# Altium footprint library SamacSys.PcbLib: 47 footprints (part 2 of 3)
Each footprint in its own frame and in the unit in brackets; x right, y up, seen from the top. Pads: shape width x height; smd on the part's side, far side on the other; paste and mask are expansions set on the pad; w line width, h text height; cw(c..) or ccw(c..) is an arc to the next point about the centre after c.
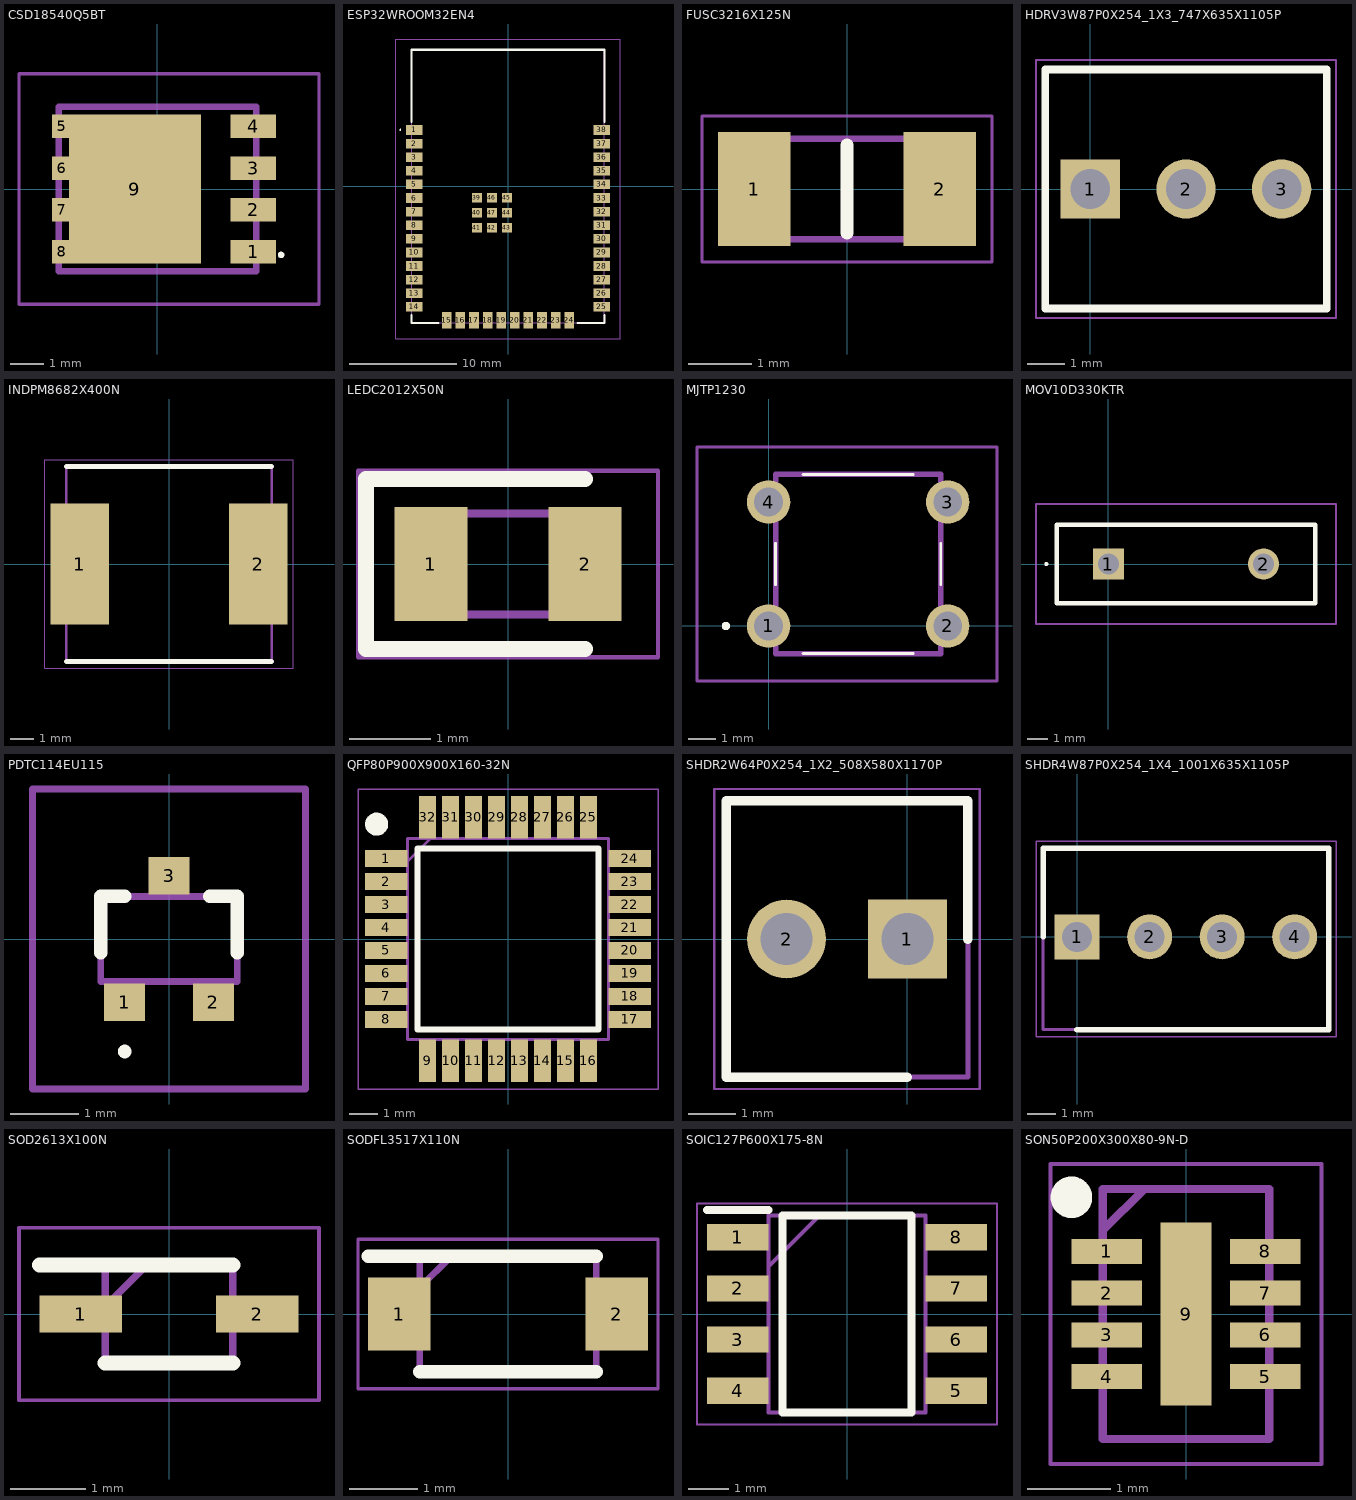
[diagram p1: the footprints below, top view; thin cyan lines are the x and y axes]

## CSD18540Q5BT [mm]
pads (9):
  rect 1.372x0.71 smd: 1(2.907,-1.905) 2(2.907,-0.635) 3(2.907,0.635) 4(2.907,1.905)
  rect 0.59x0.71 smd: 5(-2.907,1.905) 6(-2.907,0.635) 7(-2.907,-0.635) 8(-2.907,-1.905)
  rect 4x4.52 smd: 9(-0.687,0)
Top Overlay:
  lines w0.1: 3.7,-2 cw(c3.75,-2) 3.8,-2 cw(c3.75,-2) 3.7,-2
Mechanical 13:
  lines w0.2: -3,-2.5 3,-2.5 3,2.5 -3,2.5 -3,-2.5
Mechanical 15:
  lines w0.1: -4.202,-3.5 4.9,-3.5 4.9,3.5 -4.202,3.5 -4.202,-3.5
3D body "CSD18510Q5B.stp": height 1, standoff 0, extent -2.86,-2.5 3.14,2.5

## ESP32WROOM32EN4 [mm]
pads (47):
  rect 1.5x0.9 smd: 1(-8.75,5.26) 2(-8.75,3.99) 3(-8.75,2.72) 4(-8.75,1.45) 5(-8.75,0.18) 6(-8.75,-1.09) 7(-8.75,-2.36) 8(-8.75,-3.63) 9(-8.75,-4.9) 10(-8.75,-6.17) 11(-8.75,-7.44) 12(-8.75,-8.71) 13(-8.75,-9.98) 14(-8.75,-11.25) 25(8.75,-11.25) 26(8.75,-9.98) 27(8.75,-8.71) 28(8.75,-7.44) 29(8.75,-6.17) 30(8.75,-4.9) 31(8.75,-3.63) 32(8.75,-2.36) 33(8.75,-1.09) 34(8.75,0.18) 35(8.75,1.45) 36(8.75,2.72) 37(8.75,3.99) 38(8.75,5.26)
  rect 0.9x1.5 smd: 15(-5.715,-12.5) 16(-4.445,-12.5) 17(-3.175,-12.5) 18(-1.905,-12.5) 19(-0.635,-12.5) 20(0.635,-12.5) 21(1.905,-12.5) 22(3.175,-12.5) 23(4.445,-12.5) 24(5.715,-12.5)
  rect 0.9x0.9 smd: 39(-2.9,-1.06) 40(-2.9,-2.46) 41(-2.9,-3.86) 42(-1.5,-3.86) 43(-0.1,-3.86) 44(-0.1,-2.46) 45(-0.1,-1.06) 46(-1.5,-1.06) 47(-1.5,-2.46)
Top Overlay:
  lines w0.1: -10.1,5.26 cw(c-10.05,5.26) -10,5.26 cw(c-10.05,5.26) -10.1,5.26
  lines w0.2: -9,-12 -9,-12.75 -6.5,-12.75 ; -9,6 -9,12.75 9,12.75 9,6 ; 6.5,-12.75 9,-12.75 9,-12
Mechanical 13:
  lines w0.1: -9,-12.75 -9,12.75 9,12.75 9,-12.75 -9,-12.75
Mechanical 15:
  lines w0.1: -10.5,-14.25 -10.5,13.75 10.5,13.75 10.5,-14.25 -10.5,-14.25
3D body "ESP32-WROOM-32E-N4.stp": height 3.2, standoff 0, extent -9.21,-12.84 8.978,12.75

## FUSC3216X125N [mm]
pads (2):
  rect 1.16x1.82 smd: 1(-1.475,0) 2(1.475,0)
Top Overlay:
  lines w0.2: 0,-0.7 0,0.7
Mechanical 13:
  lines w0.1: -1.6,-0.8 1.6,-0.8 1.6,0.8 -1.6,0.8 -1.6,-0.8
Mechanical 15:
  lines w0.05: -2.305,-1.16 2.305,-1.16 2.305,1.16 -2.305,1.16 -2.305,-1.16
3D body "NANOSMDCH030F_24-02.stp": height 1.25, standoff 0, extent -1.6,-0.8 1.6,0.8

## HDRV3W87P0X254_1X3_747X635X1105P [mm]
pads (3):
  rect 1.575x1.575 hole 1.05: 1(0,0)
  round 1.575 hole 1.05: 2(2.54,0) 3(5.08,0)
Top Overlay:
  lines w0.2: -1.195,-3.175 6.275,-3.175 6.275,3.175 -1.195,3.175 -1.195,-3.175
Mechanical 13:
  lines w0.1: -1.195,-3.175 6.275,-3.175 6.275,3.175 -1.195,3.175 -1.195,-3.175
Mechanical 15:
  lines w0.05: -1.445,-3.425 6.525,-3.425 6.525,3.425 -1.445,3.425 -1.445,-3.425
3D body "0022232031.stp": height 10.73, standoff -3.49, extent -1.194,-3.099 6.274,3.251

## INDPM8682X400N [mm]
pads (2):
  rect 2.45x5.1 smd: 1(-3.75,0) 2(3.75,0)
Top Overlay:
  lines w0.2: -4.32,-4.09 4.32,-4.09 ; -4.32,4.09 4.32,4.09
Mechanical 13:
  lines w0.1: -4.32,-4.09 4.32,-4.09 4.32,4.09 -4.32,4.09 -4.32,-4.09
Mechanical 15:
  lines w0.05: -5.225,-4.378 5.225,-4.378 5.225,4.378 -5.225,4.378 -5.225,-4.378
3D body "IHLP3232DZER4R7M11.stp": height 3.9, standoff 0, extent -4.3,-4.097 4.3,4.097

## LEDC2012X50N [mm]
pads (2):
  rect 0.9x1.4 smd: 1(-0.95,0) 2(0.95,0)
Top Overlay:
  lines w0.2: 0.95,-1.05 -1.75,-1.05 -1.75,1.05 0.95,1.05
Mechanical 13:
  lines w0.1: -1,0.208 -0.583,0.625 ; -1,-0.625 -1,0.625 1,0.625 1,-0.625 -1,-0.625
Mechanical 15:
  lines w0.05: -1.85,-1.15 -1.85,1.15 1.85,1.15 1.85,-1.15 -1.85,-1.15
3D body "APHCM2012SYCK-F01.stp": height 0.4, standoff 0, extent -1,-0.625 1,0.625

## MJTP1230 [mm]
pads (4):
  round 1.575 hole 1.05: 1(0,0) 2(6.5,0) 3(6.5,4.5) 4(0,4.5)
Top Overlay:
  lines w0.1: 0.25,1.5 0.25,3 0.25,1.5 ; 1.25,-1 5.25,-1 1.25,-1 ; 1.25,5.5 5.25,5.5 1.25,5.5 ; 6.25,1.5 6.25,3 6.25,1.5
  lines w0.2: -1.6,0 ccw(c-1.55,0) -1.5,0 ; -1.6,0 cw(c-1.55,0) -1.5,0 ; -1.6,0 ccw(c-1.55,0) -1.5,0
Mechanical 13:
  lines w0.2: 0.25,-1 6.25,-1 6.25,5.5 0.25,5.5 0.25,-1
Mechanical 15:
  lines w0.1: -2.6,-2 8.288,-2 8.288,6.5 -2.6,6.5 -2.6,-2
3D body "MJTP1230.stp": height 5.1, standoff -5, extent -0.422,-1 6.925,5.5

## MOV10D330KTR [mm]
pads (2):
  rect 1.5x1.5 hole 1: 1(0,0)
  round 1.5 hole 1: 2(7.5,0)
Top Overlay:
  lines w0.1: -3.05,0 cw(c-3,0) -2.95,0 cw(c-3,0) -3.05,0
  lines w0.2: -2.5,-1.9 -2.5,1.9 10,1.9 10,-1.9 -2.5,-1.9
Mechanical 13:
  lines w0.1: -2.5,-1.9 -2.5,1.9 10,1.9 10,-1.9 -2.5,-1.9
Mechanical 15:
  lines w0.1: -3.5,-2.9 -3.5,2.9 11,2.9 11,-2.9 -3.5,-2.9
3D body "MOV-10D330KTR.STEP": height 18.5, standoff -14, extent -3.011,-3.359 10.085,3.546

## PDTC114EU115 [mm]
pads (3):
  rect 0.6x0.55 smd: 1(-0.65,-0.925) 2(0.65,-0.925) 3(0,0.925)
Top Overlay:
  lines w0.1: -0.65,-1.7 cw(c-0.65,-1.65) -0.65,-1.6 cw(c-0.65,-1.65) -0.65,-1.7
  lines w0.2: -1,-0.2 -1,0.625 -0.65,0.625 ; 0.6,0.625 1,0.625 1,-0.2
Mechanical 13:
  lines w0.1: -1,-0.625 1,-0.625 1,0.625 -1,0.625 -1,-0.625
Mechanical 15:
  lines w0.1: -2,-2.2 2,-2.2 2,2.2 -2,2.2 -2,-2.2
3D body "PDTC114EU,115.stp": height 0.95, standoff 0, extent -1.051,-1.052 1.049,1.048

## QFP80P900X900X160-32N [mm]
pads (32):
  rect 1.475x0.6 smd: 1(-4.238,2.8) 2(-4.238,2) 3(-4.238,1.2) 4(-4.238,0.4) 5(-4.238,-0.4) 6(-4.238,-1.2) 7(-4.238,-2) 8(-4.238,-2.8) 17(4.238,-2.8) 18(4.238,-2) 19(4.238,-1.2) 20(4.238,-0.4) 21(4.238,0.4) 22(4.238,1.2) 23(4.238,2) 24(4.238,2.8)
  rect 0.6x1.475 smd: 9(-2.8,-4.238) 10(-2,-4.238) 11(-1.2,-4.238) 12(-0.4,-4.238) 13(0.4,-4.238) 14(1.2,-4.238) 15(2,-4.238) 16(2.8,-4.238) 25(2.8,4.238) 26(2,4.238) 27(1.2,4.238) 28(0.4,4.238) 29(-0.4,4.238) 30(-1.2,4.238) 31(-2,4.238) 32(-2.8,4.238)
Top Overlay:
  circle w0.4: c-4.575,4 r0.2
  lines w0.2: -3.15,-3.15 -3.15,3.15 3.15,3.15 3.15,-3.15 -3.15,-3.15
Mechanical 13:
  lines w0.1: -3.5,2.7 -2.7,3.5 ; -3.5,-3.5 -3.5,3.5 3.5,3.5 3.5,-3.5 -3.5,-3.5
Mechanical 15:
  lines w0.05: -5.225,-5.225 -5.225,5.225 5.225,5.225 5.225,-5.225 -5.225,-5.225
3D body "STM32L031K6T6.stp": height 1.6, standoff 0, extent -4.5,-4.5 4.5,4.5

## SHDR2W64P0X254_1X2_508X580X1170P [mm]
pads (2):
  rect 1.65x1.65 hole 1.1: 1(0,0)
  round 1.65 hole 1.1: 2(-2.54,0)
Top Overlay:
  lines w0.2: 0,-2.9 -3.81,-2.9 -3.81,2.9 1.27,2.9 1.27,0
Mechanical 13:
  lines w0.1: -3.81,-2.9 -3.81,2.9 1.27,2.9 1.27,-2.9 -3.81,-2.9
Mechanical 15:
  lines w0.05: -4.06,-3.15 -4.06,3.15 1.52,3.15 1.52,-3.15 -4.06,-3.15
3D body "0022272021.stp": height 11.77, standoff -3.49, extent -3.82,-2.9 1.26,2.9

## SHDR4W87P0X254_1X4_1001X635X1105P [mm]
pads (4):
  rect 1.575x1.575 hole 1.05: 1(0,0)
  round 1.575 hole 1.05: 2(2.54,0) 3(5.08,0) 4(7.62,0)
Top Overlay:
  lines w0.2: -1.19,0 -1.19,3.1 8.82,3.1 8.82,-3.25 0,-3.25
Mechanical 13:
  lines w0.1: -1.19,-3.25 8.82,-3.25 8.82,3.1 -1.19,3.1 -1.19,-3.25
Mechanical 15:
  lines w0.05: -1.44,-3.5 9.07,-3.5 9.07,3.35 -1.44,3.35 -1.44,-3.5
3D body "0022232041.stp": height 10.73, standoff -3.49, extent -1.189,-3.25 8.819,3.1

## SOD2613X100N [mm]
pads (2):
  rect 1.1x0.5 smd: 1(-1.175,0) 2(1.175,0)
Top Overlay:
  lines w0.2: -1.725,0.65 0.85,0.65 ; -0.85,-0.65 0.85,-0.65
Mechanical 13:
  lines w0.1: -0.85,0.1 -0.3,0.65 ; -0.85,-0.65 0.85,-0.65 0.85,0.65 -0.85,0.65 -0.85,-0.65
Mechanical 15:
  lines w0.05: -2,-1.15 2,-1.15 2,1.15 -2,1.15 -2,-1.15
3D body "B5819WS.stp": height 1, standoff 0, extent -1.3,-0.65 1.3,0.65

## SODFL3517X110N [mm]
pads (2):
  rect 0.92x1.08 smd: 1(-1.6,0) 2(1.6,0)
Top Overlay:
  lines w0.2: -2.06,0.85 1.3,0.85 ; -1.3,-0.85 1.3,-0.85
Mechanical 13:
  lines w0.1: -1.3,0.39 -0.84,0.85 ; -1.3,-0.85 1.3,-0.85 1.3,0.85 -1.3,0.85 -1.3,-0.85
Mechanical 15:
  lines w0.05: -2.21,-1.1 2.21,-1.1 2.21,1.1 -2.21,1.1 -2.21,-1.1
3D body "PMEG6010ER,115.stp": height 1.07, standoff 0, extent -1.748,-1.069 1.752,0.931

## SOIC127P600X175-8N [mm]
pads (8):
  rect 1.525x0.65 smd: 1(-2.712,1.905) 2(-2.712,0.635) 3(-2.712,-0.635) 4(-2.712,-1.905) 5(2.712,-1.905) 6(2.712,-0.635) 7(2.712,0.635) 8(2.712,1.905)
Top Overlay:
  lines w0.2: -3.475,2.58 -1.95,2.58 ; -1.6,-2.45 -1.6,2.45 1.6,2.45 1.6,-2.45 -1.6,-2.45
Mechanical 13:
  lines w0.1: -1.95,1.18 -0.68,2.45 ; -1.95,-2.45 -1.95,2.45 1.95,2.45 1.95,-2.45 -1.95,-2.45
Mechanical 15:
  lines w0.05: -3.725,-2.75 -3.725,2.75 3.725,2.75 3.725,-2.75 -3.725,-2.75
3D body "NE555DR.stp": height 1.75, standoff 0, extent -3,-2.45 3,2.45

## SON50P200X300X80-9N-D [mm]
pads (9):
  rect 0.85x0.3 smd: 1(-0.95,0.75) 2(-0.95,0.25) 3(-0.95,-0.25) 4(-0.95,-0.75) 5(0.95,-0.75) 6(0.95,-0.25) 7(0.95,0.25) 8(0.95,0.75)
  rect 0.61x2.2 smd: 9(0,0)
Top Overlay:
  circle w0.25: c-1.375,1.4 r0.125
Mechanical 13:
  lines w0.1: -1,1 -0.5,1.5 ; -1,-1.5 1,-1.5 1,1.5 -1,1.5 -1,-1.5
Mechanical 15:
  lines w0.05: -1.625,-1.8 1.625,-1.8 1.625,1.8 -1.625,1.8 -1.625,-1.8
3D body "LTC3035EDDBPBF.stp": height 0.8, standoff 0, extent -1.05,-1.5 1.05,1.5